# Altium footprint library 2DD2656.PcbLib: 1 footprints
Each footprint in its own frame and in the unit in brackets; x right, y up, seen from the top. Pads: shape width x height; smd on the part's side, far side on the other; paste and mask are expansions set on the pad; w line width, h text height; cw(c..) or ccw(c..) is an arc to the next point about the centre after c.
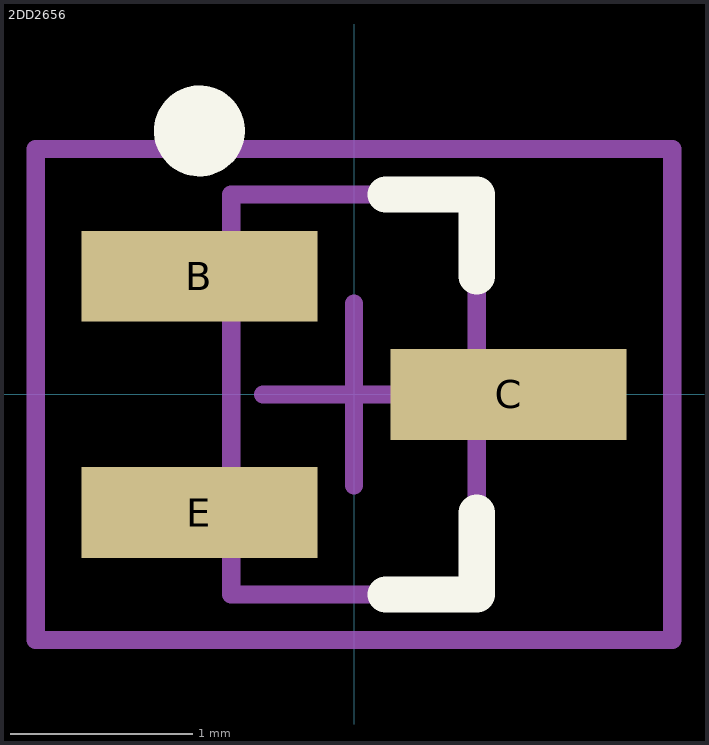
[diagram p0: the footprint, top view; thin cyan lines are the x and y axes]

## 2DD2656 [mm] "LOW VCE(SAT)   NPN SURFACE MOUNT TRANSISTO"
height 1
pads (3):
  rect 1.3x0.5 smd: B(-0.85,0.65) C(0.85,0) E(-0.85,-0.65)
Top Overlay:
  circle w0.25: c-0.85,1.45 r0.125
  lines w0.2: 0.175,-1.1 0.675,-1.1 0.675,-0.65 ; 0.175,1.1 0.675,1.1 0.675,0.65
Mechanical 13:
  lines w0.1: -0.675,-1.1 -0.675,1.1 0.675,1.1 0.675,-1.1 -0.675,-1.1
Mechanical 15:
  lines w0.1: -0.5,0 0.5,0 ; 0,-0.5 0,0.5 ; -1.75,-1.35 -1.75,1.35 1.75,1.35 1.75,-1.35 -1.75,-1.35
3D body: height 1, standoff 0.1, extent -0.675,-1.1 0.675,1.1